# Altium schematic symbol library TI SN74AVC4T774 PW+RGY.SchLib: 1 symbol
Pins are listed as number, name and electrical type; pins without a type are passive.

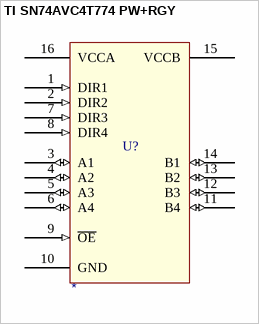
[diagram p0: symbol TI SN74AVC4T774 PW+RGY]

## TI SN74AVC4T774 PW+RGY
designator U?
Part Number: *
pins: 1 DIR1 (in), 2 DIR2 (in), 3 A1 (io), 4 A2 (io), 5 A3 (io), 6 A4 (io), 7 DIR3 (in), 8 DIR4 (in), 9 ~{OE} (in) "Suppled by VCCA. Tie to VCCA throug a pullup resistor to insure high-impedance state of the outputs (Bx) during power-up or power-down.", 10 GND (power), 11 B4 (io), 12 B3 (io), 13 B2 (io), 14 B1 (io), 15 VCCB (power), 16 VCCA (power)